# EAGLE library part TPS82140SILR (library TPS82140SILR)
Check prices <https://pricing.snapeda.com/parts/TPS82140SILR/Texas%20Instruments/view-part?ref=eda>
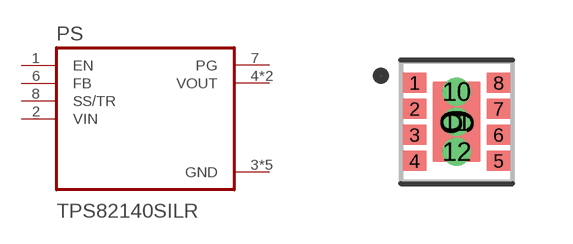
[diagram p0: symbol with the pads of CONV_TPS82140SILR; footprint CONV_TPS82140SILR]

Designator prefix PS

## TPS82140SILR (Availability: Warning; Description: 17V Input 2A Synchronous Step-Down Converter MicroSiP Module With Integrated Inductor 8-uSiP -40 to 125; MF: Texas Instruments; MP: TPS82140SILR; Package: USIP-8 Texas Instruments; Price: None; Purchase-URL: https://pricing.snapeda.com/search/part/TPS82140SILR/?ref=eda)  [CONV_TPS82140SILR]
1  EN  in
2  VIN  in
3  GND  pwr
4  VOUT  out
5  VOUT  out
6  FB  in
7  PG  out
8  SS/TR  in
9  GND  pwr
10  GND  pwr
11  GND  pwr
12  GND  pwr

## Footprint CONV_TPS82140SILR (pad centres in mm)
smd 0.6 x 0.5: 1 -1.05,0.975; 2 -1.05,0.325; 3 -1.05,-0.325; 4 -1.05,-0.975; 5 1.05,-0.975; 6 1.05,-0.325; 7 1.05,0.325; 8 1.05,0.975
smd 1.2 x 2: 9 0,0
drill 0.2 pad 0.3: 10 0,0.75; 11 0,0; 12 0,-0.75